# Altium schematic symbol library Schlib1.SchLib: 48 symbols
Pins are listed as number, name and electrical type; pins without a type are passive.

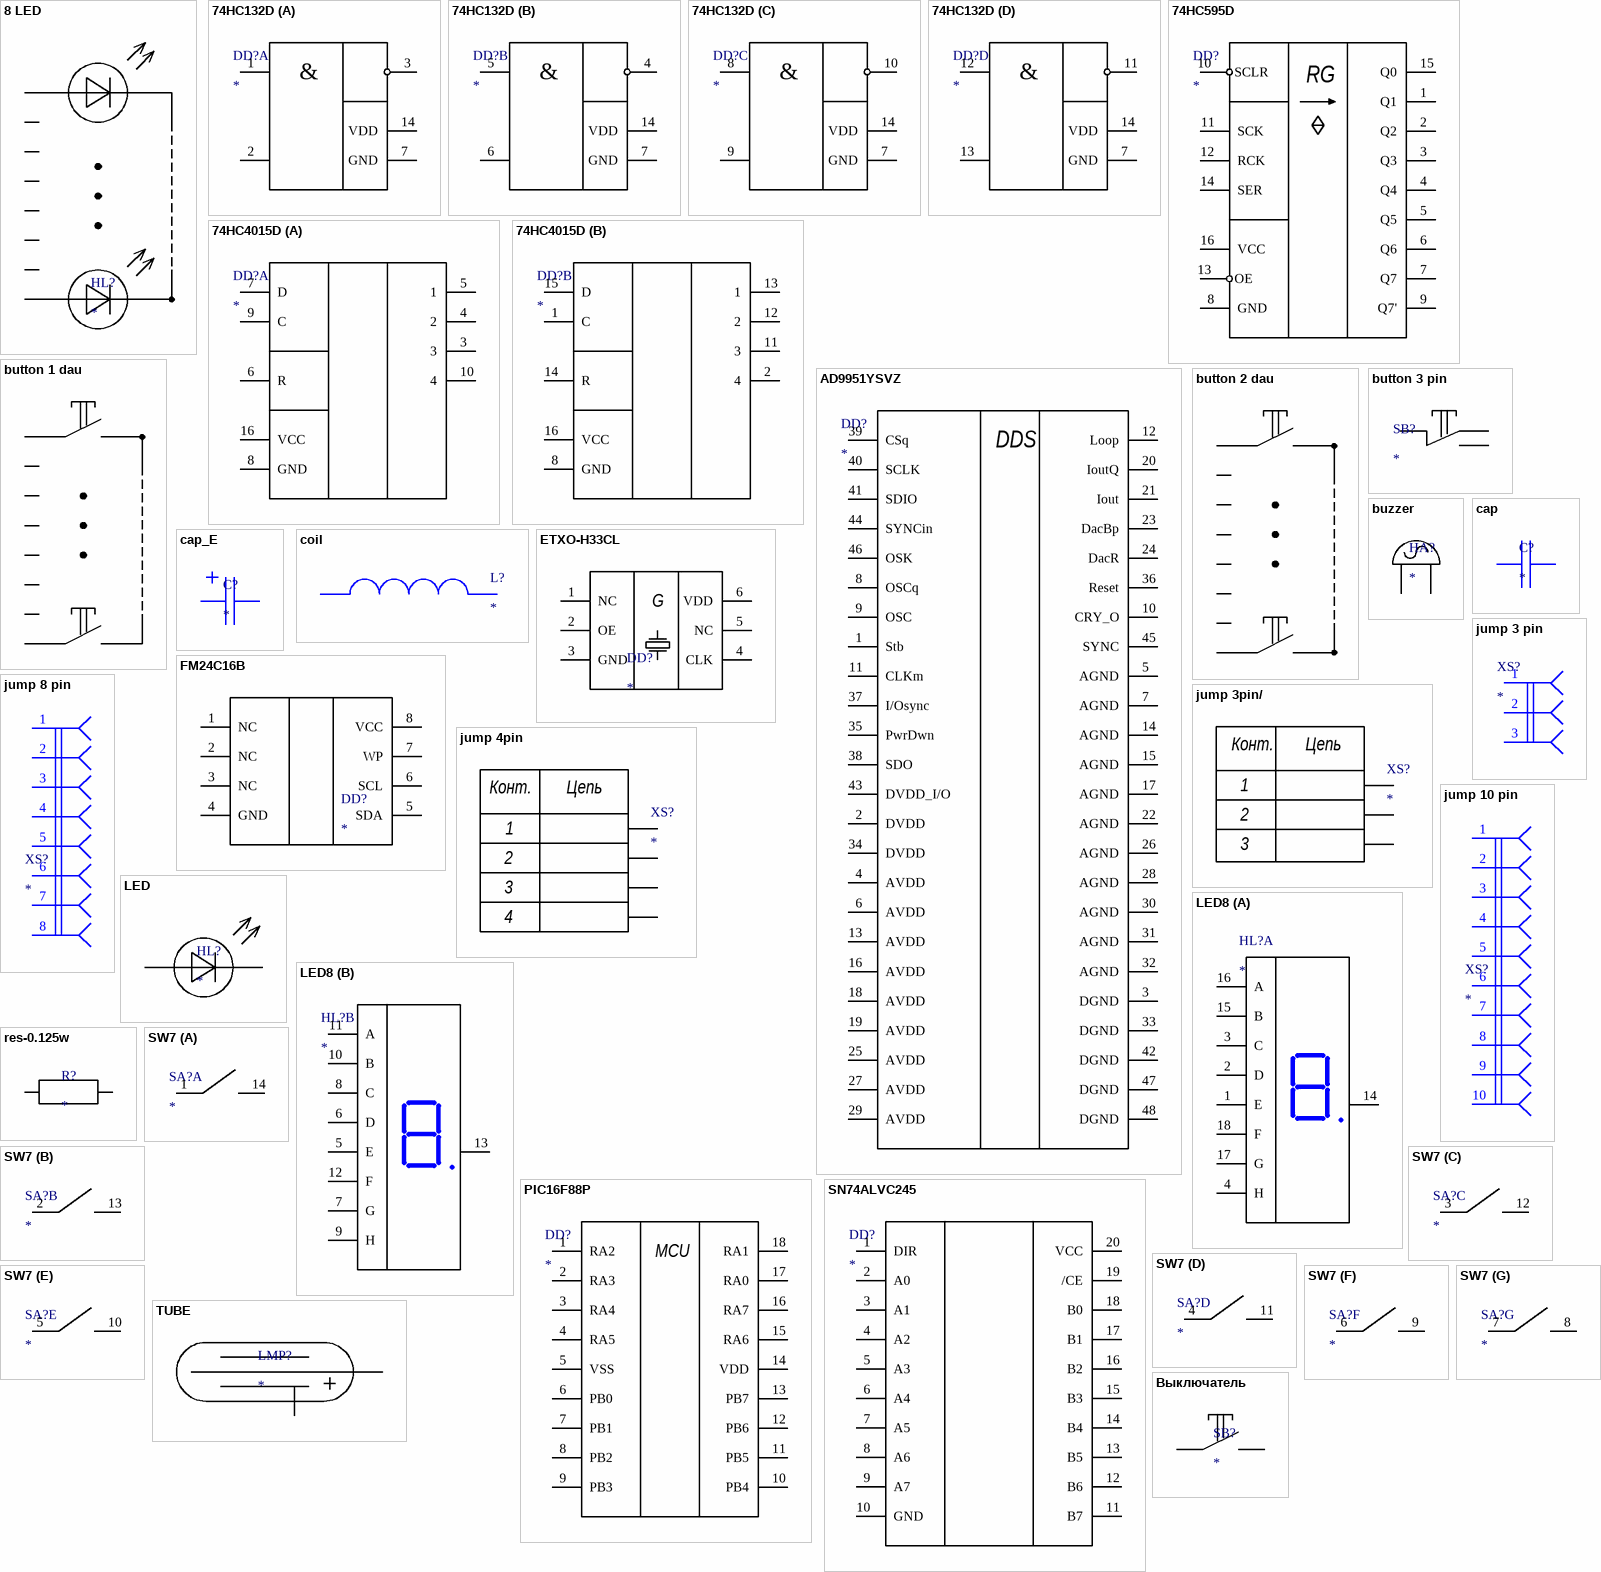
[diagram p0: symbols 8 LED to Выключатель]

## 8 LED
designator HL?
pins: 1 А1 "Анод", 2 А2 "Анод", 3 А3 "Анод", 4 А4 "Анод", 5 А5 "Анод", 6 А6 "Анод", 7 А7 "Анод", 8 А8 "Анод", 9 К "Катод"

## 74HC132D
designator DD?
footprint 74HC123D
part A pins: 1 13, 2 12, 3 4, 7 GND, 14 VDD
part B pins: 4, 5 13, 6 12, 7 GND, 14 VDD
part C pins: 7 GND, 8, 9, 10, 14 VDD
part D pins: 7 GND, 11, 12 13, 13 12, 14 VDD
part A text: &
part B text: &
part C text: &
part D text: &

## 74HC595D
designator DD?
footprint 74HC595
pins: 1 Q1, 2 Q2, 3 Q3, 4 Q4, 5 Q5, 6 Q6, 7 Q7, 8 GND, 9 Q7', 10 SCLR, 11 SCK, 12 RCK, 13 OE, 14 SER, 15 Q0, 16 VCC
text: RG

## 74HC4015D
designator DD?
footprint 74HC4015D
part A pins: 3, 4 2, 5 1, 6 R, 7 D, 8 GND, 9 C, 10 4, 16 VCC
part B pins: 1 C, 2 4, 8 GND, 11 3, 12 2, 13 1, 14 R, 15 D, 16 VCC

## AD9951YSVZ
designator DD?
footprint AD9951YSVZ
pins: 1 Stb, 2 DVDD, 3 DGND, 4 AVDD, 5 AGND, 6 AVDD, 7 AGND, 8 OSCq, 9 OSC, 10 CRY_O, 11 CLKm, 12 Loop, 13 AVDD, 14 AGND, 15 AGND, 16 AVDD, 17 AGND, 18 AVDD, 19 AVDD, 20 IoutQ, 21 Iout, 22 AGND, 23 DacBp, 24 DacR, 25 AVDD, 26 AGND, 27 AVDD, 28 AGND, 29 AVDD, 30 AGND, 31 AGND, 32 AGND, 33 DGND, 34 DVDD, 35 PwrDwn, 36 Reset, 37 I/Osync, 38 SDO, 39 CSq, 40 SCLK, 41 SDIO, 42 DGND, 43 DVDD_I/O, 44 SYNCin, 45 SYNC, 46 OSK, 47 DGND, 48 DGND
text: DDS

## button 1 dau
designator SB?  (value not drawn)
pins: 1, 2, 3, 4, 5, 6, 7, 8, 9

## button 2 dau
designator SB?  (value not drawn)
pins: 1, 2, 3, 4, 5, 6, 7, 8, 9, 10

## button 3 pin
designator SB?
pins: 1, 2, 3

## buzzer
designator HA?
pins: 1, 2

## cap
designator C?
footprint CAP_1206
pins: 1, 2

## cap_E
designator C?
footprint EIA3216
pins: 1, 2

## coil
designator L?
pins: 1, 2

## ETXO-H33CL
designator DD?
footprint OSC_ETXO-H33CL-100.000
pins: 1 NC, 2 OE, 3 GND, 4 CLK, 5 NC, 6 VDD
text: G

## FM24C16B
designator DD?
footprint FM24C16B
pins: 1 NC, 2 NC, 3 NC, 4 GND, 5 SDA, 6 SCL, 7 WP, 8 VCC

## jump 3 pin
designator XS?
footprint SAMTEC_HFWJ-03-X-X-S-VS
pins: 1, 2, 3

## jump 3pin/
designator XS?
pins: 1, 2, 3
text: Конт.; Цепь

## jump 4pin
designator XS?
pins: 1, 2, 3, 4
text: Конт.; Цепь

## jump 8 pin
designator XS?
footprint SAMTEC_TSM-108-02-F-SV
pins: 1, 2, 3, 4, 5, 6, 7, 8

## jump 10 pin
designator XS?
footprint SAMTEC_TSM-105-01-S-DV-A-M
pins: 1, 2, 3, 4, 5, 6, 7, 8, 9, 10

## LED
designator HL?
pins: 1 А "Анод", 2 K "Анод"

## LED8
designator HL?
part A pins: 1 E, 2 D, 3 C, 4 H, 14 a, 15 B, 16 A, 17 G, 18 F
part B pins: 5 E, 6 D, 7 G, 8 C, 9 H, 10 B, 11 A, 12 F, 13 a

## PIC16F88P
designator DD?
footprint PIC16F88
pins: 1 RA2, 2 RA3, 3 RA4, 4 RA5, 5 VSS, 6 PB0, 7 PB1, 8 PB2, 9 PB3, 10 PB4, 11 PB5, 12 PB6, 13 PB7, 14 VDD, 15 RA6, 16 RA7, 17 RA0, 18 RA1
text: MCU

## res-0.125w
designator R?
footprint res-1206-0.125
pins: 1, 2

## SN74ALVC245
designator DD?
pins: 1 DIR, 2 A0, 3 A1, 4 A2, 5 A3, 6 A4, 7 A5, 8 A6, 9 A7, 10 GND, 11 B7, 12 B6, 13 B5, 14 B4, 15 B3, 16 B2, 17 B1, 18 B0, 19 /CE, 20 VCC

## SW7
designator SA?
part A pins: 1, 14
part B pins: 2, 13
part C pins: 3, 12
part D pins: 4, 11
part E pins: 5, 10
part F pins: 6, 9
part G pins: 7, 8

## TUBE
designator LMP?
pins: 1 A, 2 K

## Выключатель
designator SB?
footprint Button
pins: 1, 2

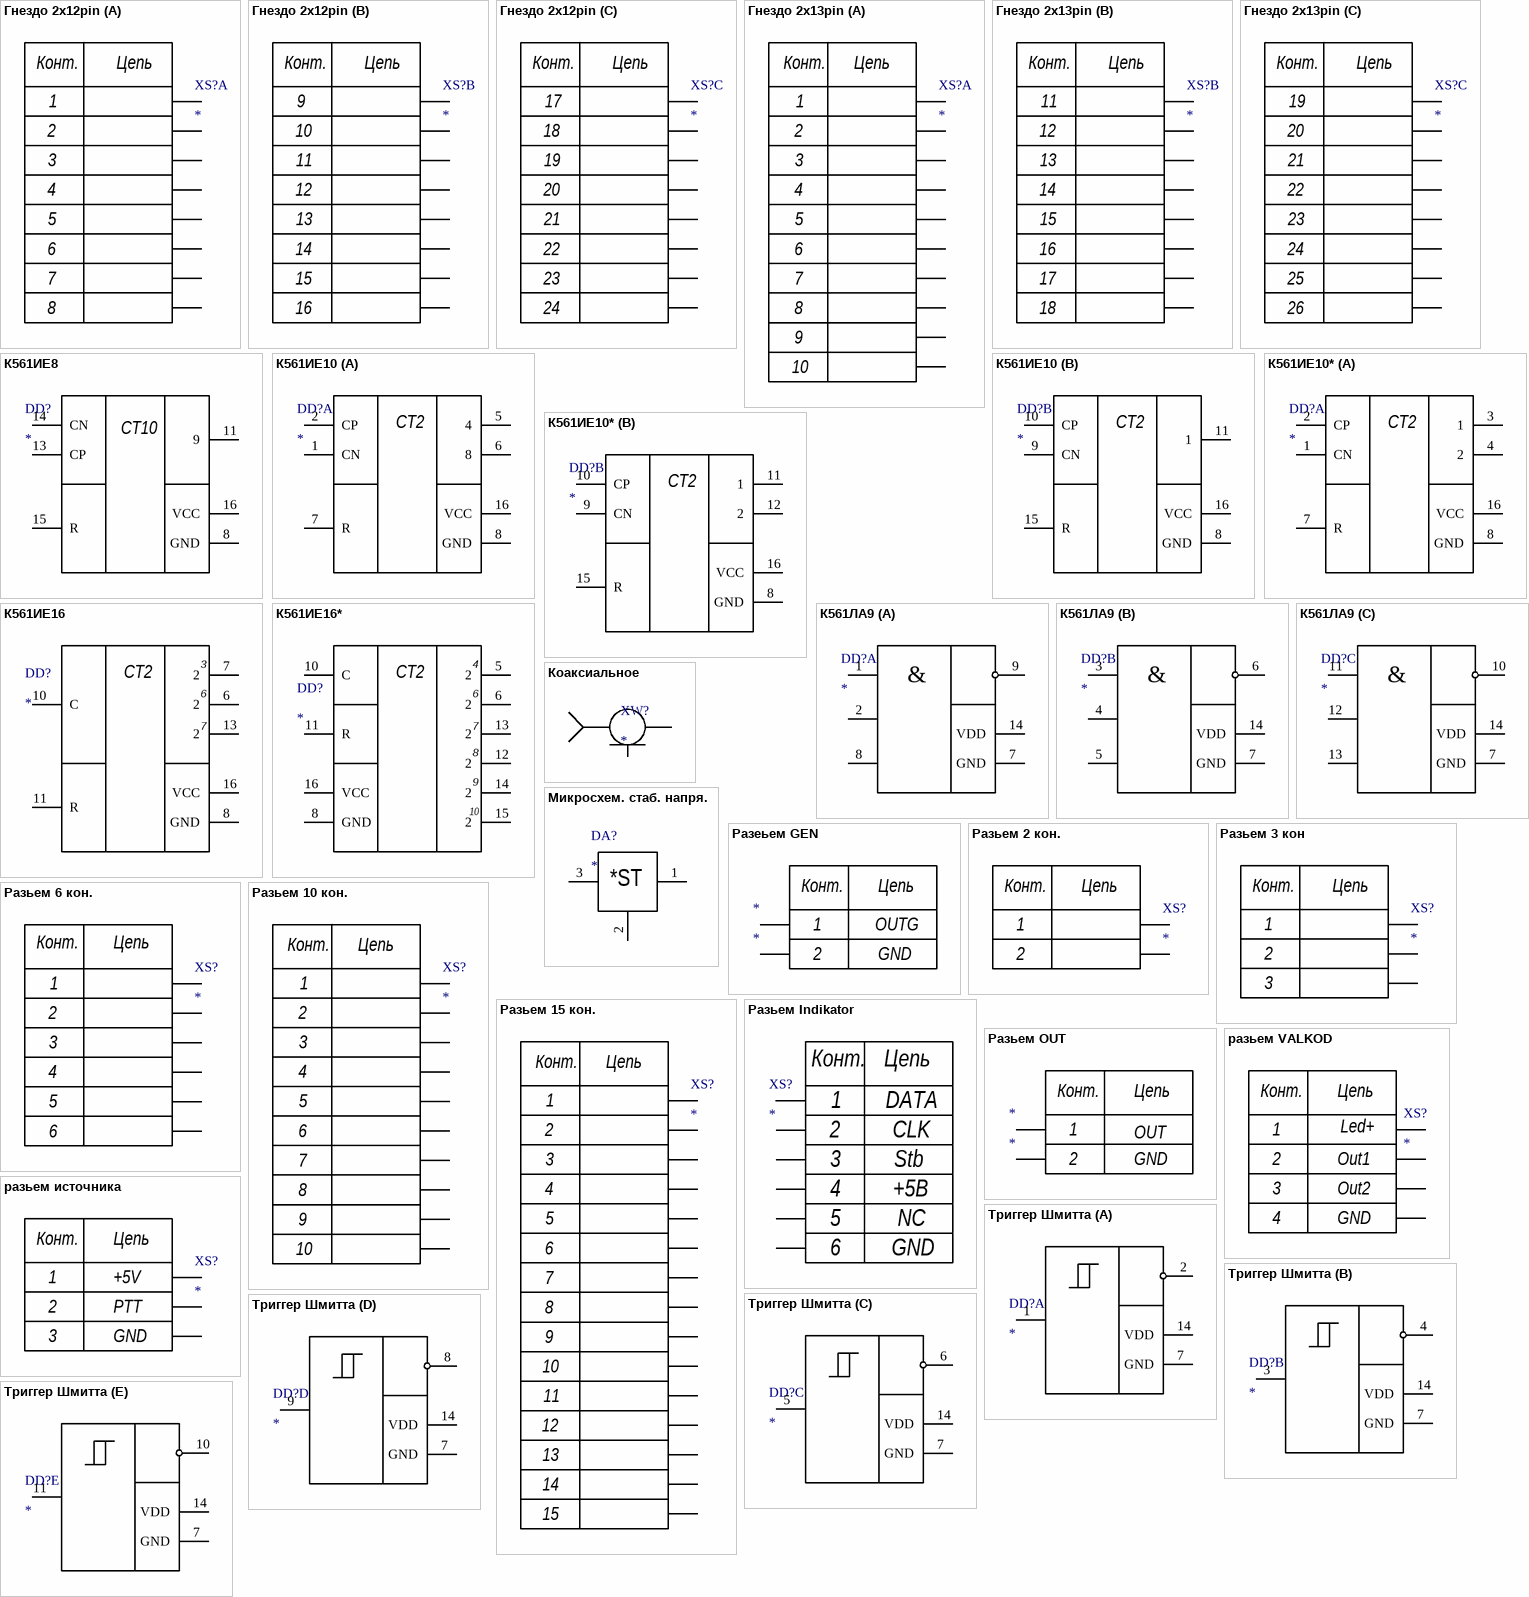
[diagram p1: symbols Гнездо 2х12pin to Триггер Шмитта]

## Гнездо 2х12pin
designator XS?
footprint B7B-XH-A(LF)(SN)
footprint PDB24
part A pins: 1, 2, 3, 4, 5, 6, 7, 8
part B pins: 9, 10, 11, 12, 13, 14, 15, 16
part C pins: 17, 18, 19, 20, 21, 22, 23, 24
part A text: Конт.; Цепь
part B text: Конт.; Цепь
part C text: Конт.; Цепь

## Гнездо 2х13pin
designator XS?
footprint PDB-26
part A pins: 1, 2, 3, 4, 5, 6, 7, 8, 9, 10
part B pins: 11, 12, 13, 14, 15, 16, 17, 18
part C pins: 19, 20, 21, 22, 23, 24, 25, 26
part A text: Конт.; Цепь
part B text: Конт.; Цепь
part C text: Конт.; Цепь

## К561ИЕ8
designator DD?
pins: 8 GND, 11 9, 13 CР, 14 CN, 15 R, 16 VCC
text: CT10

## К561ИЕ10
designator DD?
part A pins: 1 CN, 2 CР, 5 4, 6 8, 7 R, 8 GND, 16 VCC
part B pins: 8 GND, 9 CN, 10 CР, 11 1, 15 R, 16 VCC
part A text: CT2
part B text: CT2

## К561ИЕ10*
designator DD?
part A pins: 1 CN, 2 CР, 3 1, 4 2, 7 R, 8 GND, 16 VCC
part B pins: 8 GND, 9 CN, 10 CР, 11 1, 12 2, 15 R, 16 VCC
part A text: CT2
part B text: CT2

## К561ИЕ16
designator DD?
pins: 6 2, 7 2, 8 GND, 10 C, 11 R, 13 2, 16 VCC
text: 3; CT2

## К561ИЕ16*
designator DD?
pins: 5 2, 6 2, 8 GND, 10 C, 11 R, 12 2, 13 2, 14 2, 15 2, 16 VCC
text: 4; CT2; 7; 9

## К561ЛА9
designator DD?
part A pins: 1 13, 2 12, 7 GND, 8 13, 9 4, 14 VDD
part B pins: 3 13, 4 12, 5 13, 6 4, 7 GND, 14 VDD
part C pins: 7 GND, 10 4, 11 13, 12, 13, 14 VDD
part A text: &
part B text: &
part C text: &

## Коаксиальное
designator XW?
pins: 1, 2

## Микросхем. стаб. напря.
designator DA?
footprint LD1117-3.3V
pins: 1, 2, 3
text: *ST

## Разеьем GEN
designator *
footprint SAMTEC_TSM-102-02-H-SV
footprint HYR-1141
pins: 1, 2
text: Конт.; Цепь; OUTG; GND

## Разьем 2 кон.
designator XS?
pins: 1, 2
text: Конт.; Цепь

## Разьем 3 кон
designator XS?
footprint B3B-PH-K
pins: 1, 2, 3
text: Конт.; Цепь

## Разьем 6 кон.
designator XS?
pins: 1, 2, 3, 4, 5, 6
text: Конт.; Цепь

## Разьем 10 кон.
designator XS?
pins: 1, 2, 3, 4, 5, 6, 7, 8, 9, 10
text: Конт.; Цепь

## Разьем 15 кон.
designator XS?
pins: 1, 2, 3, 4, 5, 6, 7, 8, 9, 10, 11, 12, 13, 14, 15
text: Конт.; Цепь

## Разьем Indikator
designator XS?
footprint SAMTEC_TSM-106-01-LM-SV-P
pins: 1, 2, 3, 4, 5, 6
text: Конт.; Цепь; DATA; CLK; Stb; +5В; NC; GND

## Разьем OUT
designator *
footprint SAMTEC_TSM-102-02-H-SV
footprint HYR-1141
pins: 1, 2
text: Конт.; Цепь; OUT; GND

## разьем VALKOD
designator XS?
footprint SAMTEC_TSM-104-03-F-SV
footprint B4B-PH-K
pins: 1, 2, 3, 4
text: Конт.; Цепь; Led+; Out1; Out2; GND

## разьем источника
designator XS?
footprint SAMTEC_HFWJ-03-X-X-S-VS
footprint B3B-PH-K
pins: 1, 2, 3
text: Конт.; Цепь; +5V; PTT; GND

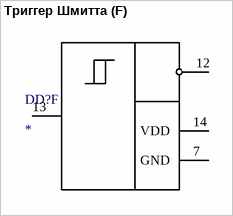
[diagram p2: symbol Триггер Шмитта]

## Триггер Шмитта
designator DD?
part A pins: 1, 2, 7 GND, 14 VDD
part B pins: 3, 4, 7 GND, 14 VDD
part C pins: 5, 6, 7 GND, 14 VDD
part D pins: 7 GND, 8, 9, 14 VDD
part E pins: 7 GND, 10, 11, 14 VDD
part F pins: 7 GND, 12, 13, 14 VDD